# Altium footprint library WL-SBTW.PcbLib: 1 footprints
Each footprint in its own frame and in the unit in brackets; x right, y up, seen from the top. Pads: shape width x height; smd on the part's side, far side on the other; paste and mask are expansions set on the pad; w line width, h text height; cw(c..) or ccw(c..) is an arc to the next point about the centre after c.
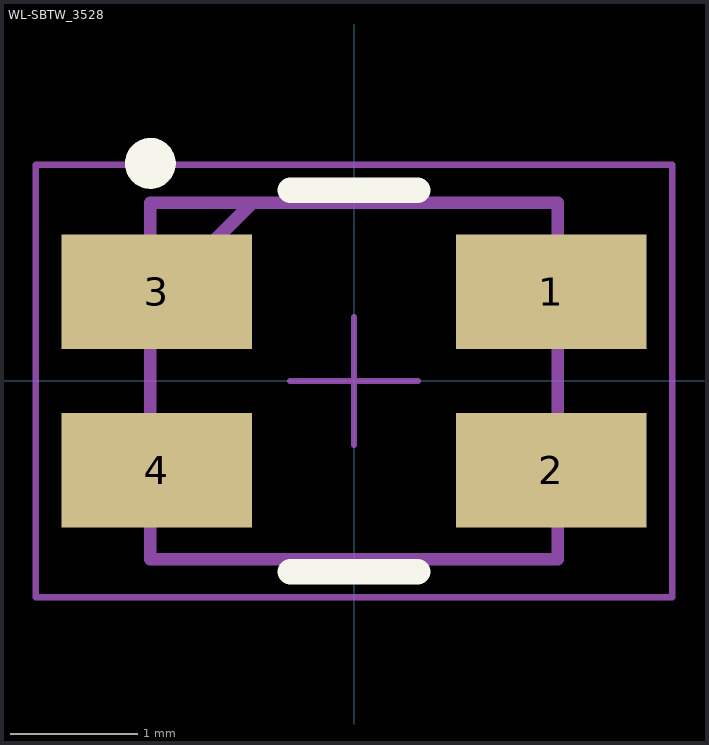
[diagram p0: the footprint, top view; thin cyan lines are the x and y axes]

## WL-SBTW_3528 [mm] "SMD Bi-color TOP LED, body 3.2x2.8mm"
height 1.9
pads (4):
  rect 1.5x0.9 smd: 1(1.55,0.7) 2(1.55,-0.7) 3(-1.55,0.7) 4(-1.55,-0.7)
Top Overlay:
  circle w0.2: c-1.6,1.71 r0.1
  lines w0.2: -0.5,-1.5 0.5,-1.5 ; -0.5,1.5 0.5,1.5
Top Designator:
  text ".Designator" at -3.499,-0.233 h0.7
Top Component Outline:
  lines w0.1: -1.6,0.6 -0.8,1.4 ; -1.6,-1.4 1.6,-1.4 1.6,1.4 -1.6,1.4 -1.6,-1.4
Top Courtyard:
  lines w0.05: -0.5,0 0.5,0 ; 0,-0.5 0,0.5 ; -2.5,-1.7 2.5,-1.7 2.5,1.7 -2.5,1.7 -2.5,-1.7
3D body "Download_STP_WL-SBTW-3528 (rev1).stp": height 1.9, standoff 0, extent -1.75,-1.4 1.75,1.4